# Altium schematic symbol library CAESAR-Lib_sch.SchLib: 2 symbols
Pins are listed as number, name and electrical type; pins without a type are passive.

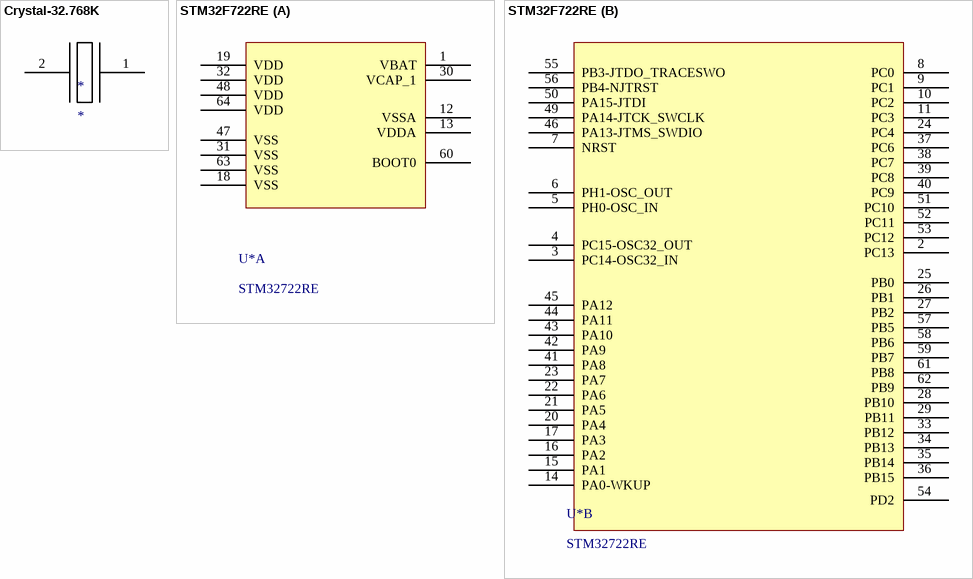
[diagram p0: symbols Crystal-32.768K to STM32F722RE]

## Crystal-32.768K
designator *
pins: 1 66, 2 65

## STM32F722RE
designator U*, comment STM32722RE
Mouser Link: http://th.mouser.com/ProductDetail/STMicroelectronics/STM32F722RET6/?qs=%2fha2pyFadujfNX2SIlaQE1NoHfZniB%252b7VQgin410whUkbTeJ88RXSA%3d%3d
footprint STM32F722RE-FP (LQFP64)
part A pins: 1 VBAT, 12 VSSA, 13 VDDA, 18 VSS, 19 VDD, 30 VCAP_1, 31 VSS, 32 VDD, 47 VSS, 48 VDD, 60 BOOT0, 63 VSS, 64 VDD
part B pins: 2 PC13, 3 PC14-OSC32_IN, 4 PC15-OSC32_OUT, 5 PH0-OSC_IN, 6 PH1-OSC_OUT, 7 NRST, 8 PC0, 9 PC1, 10 PC2, 11 PC3, 14 PA0-WKUP, 15 PA1, 16 PA2, 17 PA3, 20 PA4, 21 PA5, 22 PA6, 23 PA7, 24 PC4, 25 PB0, 26 PB1, 27 PB2, 28 PB10, 29 PB11, 33 PB12, 34 PB13, 35 PB14, 36 PB15, 37 PC6, 38 PC7, 39 PC8, 40 PC9, 41 PA8, 42 PA9, 43 PA10, 44 PA11, 45 PA12, 46 PA13-JTMS_SWDIO, 49 PA14-JTCK_SWCLK, 50 PA15-JTDI, 51 PC10, 52 PC11, 53 PC12, 54 PD2, 55 PB3-JTDO_TRACESWO, 56 PB4-NJTRST, 57 PB5, 58 PB6, 59 PB7, 61 PB8, 62 PB9